# Altium footprint library PcbLib1.PcbLib: 1 footprints
Each footprint in its own frame and in the unit in brackets; x right, y up, seen from the top. Pads: shape width x height; smd on the part's side, far side on the other; paste and mask are expansions set on the pad; w line width, h text height; cw(c..) or ccw(c..) is an arc to the next point about the centre after c.
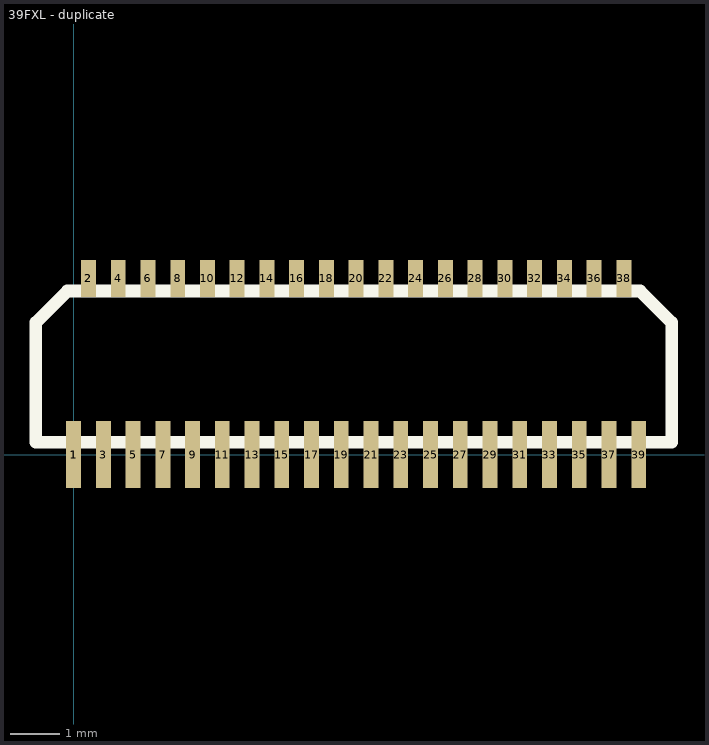
[diagram p0: the footprint, top view; thin cyan lines are the x and y axes]

## 39FXL - duplicate [mm]
pads (41):
  rect 0.3x0.75 smd: 1(0,0) 2(0.3,3.556) 2(0.3,3.556) 4(0.9,3.556) 6(1.5,3.556) 8(2.1,3.556) 10(2.7,3.556) 12(3.3,3.556) 14(3.9,3.556) 16(4.5,3.556) 18(5.1,3.556) 20(5.7,3.556) 22(6.3,3.556) 24(6.9,3.556) 26(7.5,3.556) 28(8.1,3.556) 30(8.7,3.556) 32(9.3,3.556) 34(9.9,3.556) 36(10.5,3.556) 38(11.1,3.556)
  rect 0.3x1.35 smd: 1(0,0) 3(0.6,0) 5(1.2,0) 7(1.8,0) 9(2.4,0) 11(3,0) 13(3.6,0) 15(4.2,0) 17(4.8,0) 19(5.4,0) 21(6,0) 23(6.6,0) 25(7.2,0) 27(7.8,0) 29(8.4,0) 31(9,0) 33(9.6,0) 35(10.2,0) 37(10.8,0) 39(11.4,0)
Top Overlay:
  lines w0.254: -0.762,0.254 -0.762,2.667 -0.127,3.302 11.43,3.302 12.065,2.667 12.065,0.254 -0.762,0.254
3D body "39FXV-RSM1-GAN-ETF.STEP": height 0.9, standoff 0, extent -1.15,0.275 12.55,3.275